# Altium integrated library TI Data Converters Digital to Analog Converter.IntLib: 1533 symbols (part 98 of 99)
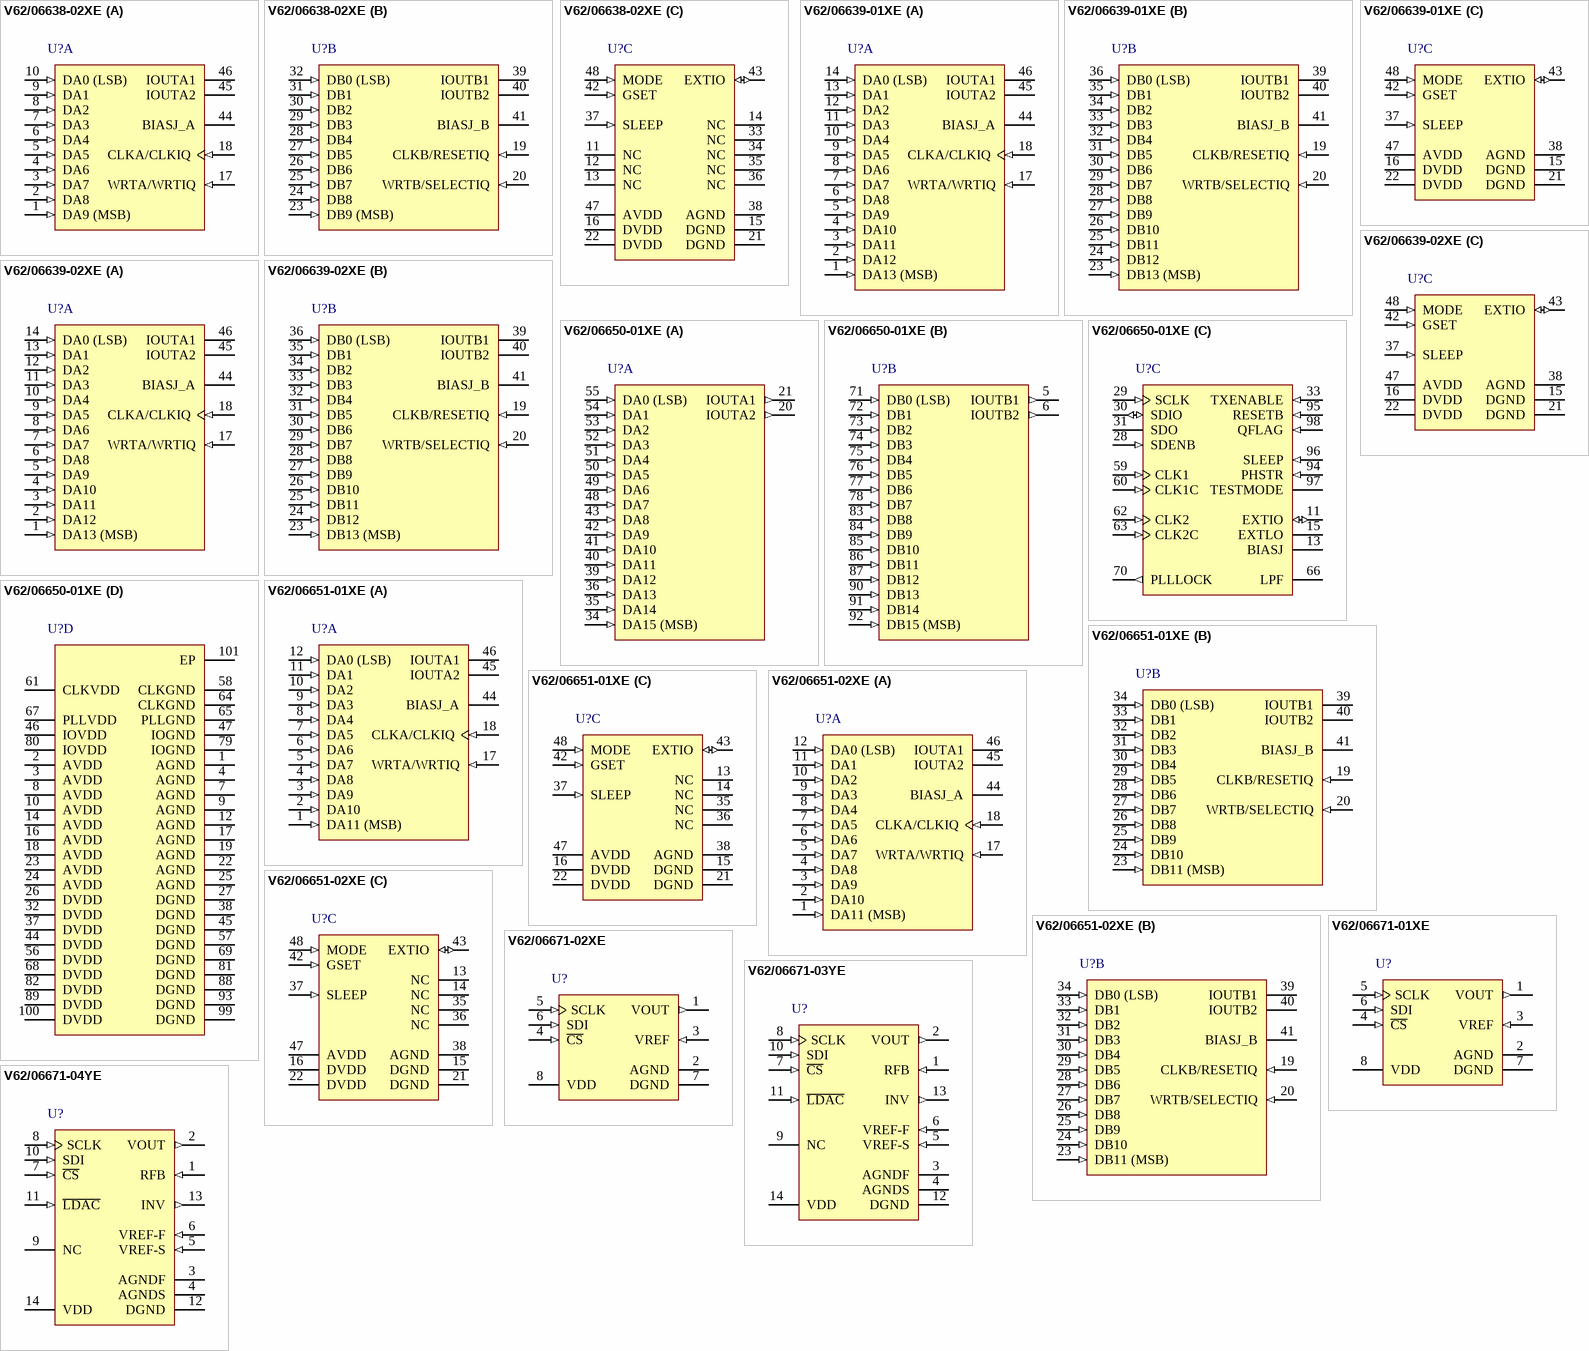
[diagram p170: symbols V62/06638-02XE to V62/06671-04YE]

## V62/06639-02XE
designator U?
Enhanced Product Dual 14-Bit 200-MSPS DAC, -55 to 125 degC, 48-pin QFP (PFB48), Green (RoHS & no Sb/Br); Manufacturer: Texas Instruments; PartNumber: V62/06639-02XE; DAC Channels: 2; DNL(Max)(+/-LSB): 3; INL(Max)(+/-LSB): 4; Interface: Parallel CMOS; Power Consumption(Typ)(mW): 330; Resolution(Bits): 14; Settling Time(us): 0.02; SFDR(dB): 84; SNR(dB): 77; SubFamily: High Speed DAC (>10MSPS); DatasheetVersion: SGLS339A; PackageVersion: 4073176/B, 10/1996; PackageReference: PFB48; PackageDescription: 48-Pin Plastic Flat Pack, Body 7 x 7 mm, Pitch 0.5 mm; Supplier 1: Mouser; Supplier Part Number 1: 595-V62/06639-02XE; Eco-Plan: Green (RoHS & no Sb/Br); Mounting Technology: Surface Mount; Code_JEDEC: MS-026; ComponentLink1Description: Manufacturer URL; ComponentLink1URL: http://www.ti.com/; ComponentLink2Description: Datasheet; ComponentLink2URL: http://www.ti.com/general/docs/lit/getliterature.tsp?genericPartNumber=DAC5672-EP&fileType=pdf; ComponentLink3Description: Package Specification; ComponentLink3URL: http://www.ti.com/lit/ml/mtqf019a/mtqf019a.pdf
footprint TI-PFB48_N (QFP, 48-Leads, Body 7x7mm, Pitch 0.5mm, IPC Medium Density)
footprint TI-PFB48_L (QFP, 48-Leads, Body 7x7mm, Pitch 0.5mm, IPC High Density)
footprint TI-PFB48_M (QFP, 48-Leads, Body 7x7mm, Pitch 0.5mm, IPC Low Density)
part A pins: 1 DA13 (MSB) (in) "Data port A. DA13 is MSB and DA0 is LSB. Internal pulldown.", 2 DA12 (in) "Data port A. DA13 is MSB and DA0 is LSB. Internal pulldown.", 3 DA11 (in) "Data port A. DA13 is MSB and DA0 is LSB. Internal pulldown.", 4 DA10 (in) "Data port A. DA13 is MSB and DA0 is LSB. Internal pulldown.", 5 DA9 (in) "Data port A. DA13 is MSB and DA0 is LSB. Internal pulldown.", 6 DA8 (in) "Data port A. DA13 is MSB and DA0 is LSB. Internal pulldown.", 7 DA7 (in) "Data port A. DA13 is MSB and DA0 is LSB. Internal pulldown.", 8 DA6 (in) "Data port A. DA13 is MSB and DA0 is LSB. Internal pulldown.", 9 DA5 (in) "Data port A. DA13 is MSB and DA0 is LSB. Internal pulldown.", 10 DA4 (in) "Data port A. DA13 is MSB and DA0 is LSB. Internal pulldown.", 11 DA3 (in) "Data port A. DA13 is MSB and DA0 is LSB. Internal pulldown.", 12 DA2 (in) "Data port A. DA13 is MSB and DA0 is LSB. Internal pulldown.", 13 DA1 (in) "Data port A. DA13 is MSB and DA0 is LSB. Internal pulldown.", 14 DA0 (LSB) (in) "Data port A. DA13 is MSB and DA0 is LSB. Internal pulldown.", 17 WRTA/WRTIQ (in) "Input write signal for PORT A (WRTIQ in interleaving mode)", 18 CLKA/CLKIQ (in) "Clock input for DACA, CLKIQ in interleaved mode", 44 BIASJ_A "Full-scale output current bias for DACA", 45 IOUTA2 (hiz) "DACA complementary current output. Full-scale with all bits of DA low.", 46 IOUTA1 (hiz) "DACA current output. Full-scale with all bits of DA high."
part B pins: 19 CLKB/RESETIQ (in) "Clock input for DACB, RESETIQ in interleaved mode", 20 WRTB/SELECTIQ (in) "Input write signal for PORT B (SELECTIQ in interleaving mode)", 23 DB13 (MSB) (in) "Data port B. DB13 is MSB and DB0 is LSB. Internal pulldown.", 24 DB12 (in) "Data port B. DB13 is MSB and DB0 is LSB. Internal pulldown.", 25 DB11 (in) "Data port B. DB13 is MSB and DB0 is LSB. Internal pulldown.", 26 DB10 (in) "Data port B. DB13 is MSB and DB0 is LSB. Internal pulldown.", 27 DB9 (in) "Data port B. DB13 is MSB and DB0 is LSB. Internal pulldown.", 28 DB8 (in) "Data port B. DB13 is MSB and DB0 is LSB. Internal pulldown.", 29 DB7 (in) "Data port B. DB13 is MSB and DB0 is LSB. Internal pulldown.", 30 DB6 (in) "Data port B. DB13 is MSB and DB0 is LSB. Internal pulldown.", 31 DB5 (in) "Data port B. DB13 is MSB and DB0 is LSB. Internal pulldown.", 32 DB4 (in) "Data port B. DB13 is MSB and DB0 is LSB. Internal pulldown.", 33 DB3 (in) "Data port B. DB13 is MSB and DB0 is LSB. Internal pulldown.", 34 DB2 (in) "Data port B. DB13 is MSB and DB0 is LSB. Internal pulldown.", 35 DB1 (in) "Data port B. DB13 is MSB and DB0 is LSB. Internal pulldown.", 36 DB0 (LSB) (in) "Data port B. DB13 is MSB and DB0 is LSB. Internal pulldown.", 39 IOUTB1 (hiz) "DACB current output. Full-scale with all bits of DB high.", 40 IOUTB2 (hiz) "DACB complementary current output. Full-scale with all bits of DB low.", 41 BIASJ_B "Full-scale output current bias for DACB"
part C pins: 15 DGND (power) "Digital ground", 16 DVDD (power) "Digital supply voltage", 21 DGND (power) "Digital ground", 22 DVDD (power) "Digital supply voltage", 37 SLEEP (in) "Sleep function control input: H - DAC in power-down mode, L - DAC in operating mode. Internal pulldown.", 38 AGND (power) "Analog ground", 42 GSET (in) "Gain-setting mode: H - 1 resistor, L - 2 resistors. Internal pullup.", 43 EXTIO (io) "Internal reference output (bypass with 0.1 uF to AGND) or external reference input", 47 AVDD (power) "Analog supply voltage", 48 MODE (in) "Mode Select: H - Dual Bus, L - Interleaved. Internal pullup."

## V62/06650-01XE
designator U?
Enhanced Product 16-Bit 500 MSPS 2 x - 8 x Interpolating Dual-Channel DAC, -55 to 125 degC, 100-pin QFP (PZP100), Green (RoHS & no Sb/Br); Manufacturer: Texas Instruments; PartNumber: V62/06650-01XE; DAC Channels: 2; Interface: Parallel CMOS; Power Consumption(Typ)(mW): 1410; Resolution(Bits): 16; Settling Time(us): 0.0104; SFDR(dB): 77; SNR(dB): 73; SubFamily: High Speed DAC (>10MSPS); DatasheetVersion: SGLS333; PackageVersion: 4146929/C, 09/2011; PackageReference: PZP100-5445X5445TP; PackageDescription: 100-Lead, Plastic Flat Pack, Body Size 14 x 14 mm, Pitch 0.5 mm; Supplier 1: Mouser; Supplier Part Number 1: 595-V62/06650-01XE; Eco-Plan: Green (RoHS & no Sb/Br); Mounting Technology: Surface Mount; Code_JEDEC: MS-026; ComponentLink1Description: Manufacturer URL; ComponentLink1URL: http://www.ti.com/; ComponentLink2Description: Datasheet; ComponentLink2URL: http://www.ti.com/general/docs/lit/getliterature.tsp?genericPartNumber=DAC5687-EP&fileType=pdf; ComponentLink3Description: Package Specification; ComponentLink3URL: http://www.ti.com/litv/pdf/mpqf053b
footprint TI-PZP100-5445X5445TP_N (QFP, 100-Leads, Body 14x14mm, Pitch 0.5mm, Thermal Pad 5.445x5.445mm, IPC Medium Density)
footprint TI-PZP100-5445X5445TP_L (QFP, 100-Leads, Body 14x14mm, Pitch 0.5mm, Thermal Pad 5.445x5.445mm, IPC High Density)
footprint TI-PZP100-5445X5445TP_M (QFP, 100-Leads, Body 14x14mm, Pitch 0.5mm, Thermal Pad 5.445x5.445mm, IPC Low Density)
part A pins: 20 IOUTA2 (out) "A-channel DAC complementary current output. Full scale when all input bits are set to 0", 21 IOUTA1 (out) "A-channel DAC current output. Full scale when all input bits are set to 1", 34 DA15 (MSB) (in) "A-channel data bits 0 through 15. DA15 is most significant data bit (MSB). DA0 is least significant data bit (LSB). Internal pulldown", 35 DA14 (in) "A-channel data bits 0 through 15. DA15 is most significant data bit (MSB). DA0 is least significant data bit (LSB). Internal pulldown", 36 DA13 (in) "A-channel data bits 0 through 15. DA15 is most significant data bit (MSB). DA0 is least significant data bit (LSB). Internal pulldown", 39 DA12 (in) "A-channel data bits 0 through 15. DA15 is most significant data bit (MSB). DA0 is least significant data bit (LSB). Internal pulldown", 40 DA11 (in) "A-channel data bits 0 through 15. DA15 is most significant data bit (MSB). DA0 is least significant data bit (LSB). Internal pulldown", 41 DA10 (in) "A-channel data bits 0 through 15. DA15 is most significant data bit (MSB). DA0 is least significant data bit (LSB). Internal pulldown", 42 DA9 (in) "A-channel data bits 0 through 15. DA15 is most significant data bit (MSB). DA0 is least significant data bit (LSB). Internal pulldown", 43 DA8 (in) "A-channel data bits 0 through 15. DA15 is most significant data bit (MSB). DA0 is least significant data bit (LSB). Internal pulldown", 48 DA7 (in) "A-channel data bits 0 through 15. DA15 is most significant data bit (MSB). DA0 is least significant data bit (LSB). Internal pulldown", 49 DA6 (in) "A-channel data bits 0 through 15. DA15 is most significant data bit (MSB). DA0 is least significant data bit (LSB). Internal pulldown", 50 DA5 (in) "A-channel data bits 0 through 15. DA15 is most significant data bit (MSB). DA0 is least significant data bit (LSB). Internal pulldown", 51 DA4 (in) "A-channel data bits 0 through 15. DA15 is most significant data bit (MSB). DA0 is least significant data bit (LSB). Internal pulldown", 52 DA3 (in) "A-channel data bits 0 through 15. DA15 is most significant data bit (MSB). DA0 is least significant data bit (LSB). Internal pulldown", 53 DA2 (in) "A-channel data bits 0 through 15. DA15 is most significant data bit (MSB). DA0 is least significant data bit (LSB). Internal pulldown", 54 DA1 (in) "A-channel data bits 0 through 15. DA15 is most significant data bit (MSB). DA0 is least significant data bit (LSB). Internal pulldown", 55 DA0 (LSB) (in) "A-channel data bits 0 through 15. DA15 is most significant data bit (MSB). DA0 is least significant data bit (LSB). Internal pulldown"
part B pins: 5 IOUTB1 (out) "B-channel DAC current output. Full scale when all input bits are set to 1", 6 IOUTB2 (out) "B-channel DAC complementary current output. Full scale when all input bits are set to 0", 71 DB0 (LSB) (in) "B-channel data bits 0 through 15. DB15 is most significant data bit (MSB). DB0 is least significant data bit (LSB). Internal pulldown Note: The order of the B data bus can be reversed by register rev_bbus.", 72 DB1 (in) "B-channel data bits 0 through 15. DB15 is most significant data bit (MSB). DB0 is least significant data bit (LSB). Internal pulldown Note: The order of the B data bus can be reversed by register rev_bbus.", 73 DB2 (in) "B-channel data bits 0 through 15. DB15 is most significant data bit (MSB). DB0 is least significant data bit (LSB). Internal pulldown Note: The order of the B data bus can be reversed by register rev_bbus.", 74 DB3 (in) "B-channel data bits 0 through 15. DB15 is most significant data bit (MSB). DB0 is least significant data bit (LSB). Internal pulldown Note: The order of the B data bus can be reversed by register rev_bbus.", 75 DB4 (in) "B-channel data bits 0 through 15. DB15 is most significant data bit (MSB). DB0 is least significant data bit (LSB). Internal pulldown Note: The order of the B data bus can be reversed by register rev_bbus.", 76 DB5 (in) "B-channel data bits 0 through 15. DB15 is most significant data bit (MSB). DB0 is least significant data bit (LSB). Internal pulldown Note: The order of the B data bus can be reversed by register rev_bbus.", 77 DB6 (in) "B-channel data bits 0 through 15. DB15 is most significant data bit (MSB). DB0 is least significant data bit (LSB). Internal pulldown Note: The order of the B data bus can be reversed by register rev_bbus.", 78 DB7 (in) "B-channel data bits 0 through 15. DB15 is most significant data bit (MSB). DB0 is least significant data bit (LSB). Internal pulldown Note: The order of the B data bus can be reversed by register rev_bbus.", 83 DB8 (in) "B-channel data bits 0 through 15. DB15 is most significant data bit (MSB). DB0 is least significant data bit (LSB). Internal pulldown Note: The order of the B data bus can be reversed by register rev_bbus.", 84 DB9 (in) "B-channel data bits 0 through 15. DB15 is most significant data bit (MSB). DB0 is least significant data bit (LSB). Internal pulldown Note: The order of the B data bus can be reversed by register rev_bbus.", 85 DB10 (in) "B-channel data bits 0 through 15. DB15 is most significant data bit (MSB). DB0 is least significant data bit (LSB). Internal pulldown Note: The order of the B data bus can be reversed by register rev_bbus.", 86 DB11 (in) "B-channel data bits 0 through 15. DB15 is most significant data bit (MSB). DB0 is least significant data bit (LSB). Internal pulldown Note: The order of the B data bus can be reversed by register rev_bbus.", 87 DB12 (in) "B-channel data bits 0 through 15. DB15 is most significant data bit (MSB). DB0 is least significant data bit (LSB). Internal pulldown Note: The order of the B data bus can be reversed by register rev_bbus.", 90 DB13 (in) "B-channel data bits 0 through 15. DB15 is most significant data bit (MSB). DB0 is least significant data bit (LSB). Internal pulldown Note: The order of the B data bus can be reversed by register rev_bbus.", 91 DB14 (in) "B-channel data bits 0 through 15. DB15 is most significant data bit (MSB). DB0 is least significant data bit (LSB). Internal pulldown Note: The order of the B data bus can be reversed by register rev_bbus.", 92 DB15 (MSB) (in) "B-channel data bits 0 through 15. DB15 is most significant data bit (MSB). DB0 is least significant data bit (LSB). Internal pulldown Note: The order of the B data bus can be reversed by register rev_bbus."
part C pins: 11 EXTIO (io) "Used as external reference input when internal reference is disabled (i.e., EXTLO connected to AVDD). Used as internal reference output when EXTLO = AGND, requires a 0.1-uF decoupling capacitor to AGND when used as reference (See Datasheet)", 13 BIASJ "Full-scale output current bias", 15 EXTLO "Internal reference ground. Connect to AVDD to disable the internal reference", 28 SDENB (in) "Active-low serial data enable, always an input to the DAC5686. Internal pulldown", 29 SCLK (in) "Serial interface clock. Internal pulldown", 30 SDIO (io) "Bidirectional serial-port data in the three-pin serial interface mode. Input-only serial data in the four-pin serial interface mode. Internal pulldown", 31 SDO (hiz) "High-impedance state (the pin is not used) in the three-pin serial interface mode. Serial-port output data in the four-pin serial interface mode.", 33 TXENABLE (in) "TxENABLE is used in interleaved mode. The rising edge of TxENABLE synchronizes the data of channels A and B. The first data after the rising edge of TxENABLE is treated as A data, while the next data is treated as B data and (See Datasheet)", 59 CLK1 (in) "External clock input; data clock input", 60 CLK1C (in) "Complementary external clock input; data clock input", 62 CLK2 (in) "External clock input; sample clock for the DAC (optional if PLL disabled)", 63 CLK2C (in) "Complementary external clock input; sample clock for the DAC (optional if PLL disabled)", 66 LPF "PLL loop filter connection. Can be left open or connected to GND if PLL is not used (PLLVDD = 0 V).", 70 PLLLOCK (out) "PLL lock status bit. In PLL clock mode, PLLLOCK is high when PLL is locked to the input clock. In external clock mode, PLLLOCK outputs the input rate clock.", 94 PHSTR (in) "The PHSTR pin has two functions. When the sync_phstr register is 0, a high on the PHSTR pin resets the NCO phase accumulator. When the sync_phstr register is 1, a PHSTR pin low-to-high transition sets the divided clock phase (See Datasheet)", 95 RESETB (in) "Resets the chip when low. Internal pullup", 96 SLEEP (in) "Asynchronous hardware power-down input. Active high. Internal pulldown", 97 TESTMODE "TESTMODE is DGND for the user", 98 QFLAG (in) "Used in the interleaved data input mode: When the qflag register bit is 1, the QFLAG pin is used as an input to identify the interleaved data sequence. QFLAG high identifies the data as channel B. Pin can be left open when (See Datasheet)"
part D pins: 1 AGND (power) "Analog ground return", 2 AVDD (power) "Analog supply voltage", 3 AVDD (power) "Analog supply voltage", 4 AGND (power) "Analog ground return", 7 AGND (power) "Analog ground return", 8 AVDD (power) "Analog supply voltage", 9 AGND (power) "Analog ground return", 10 AVDD (power) "Analog supply voltage", 12 AGND (power) "Analog ground return", 14 AVDD (power) "Analog supply voltage", 16 AVDD (power) "Analog supply voltage", 17 AGND (power) "Analog ground return", 18 AVDD (power) "Analog supply voltage", 19 AGND (power) "Analog ground return", 22 AGND (power) "Analog ground return", 23 AVDD (power) "Analog supply voltage", 24 AVDD (power) "Analog supply voltage", 25 AGND (power) "Analog ground return", 26 DVDD (power) "Digital supply voltage", 27 DGND (power) "Digital ground return", 32 DVDD (power) "Digital supply voltage", 37 DVDD (power) "Digital supply voltage", 38 DGND (power) "Digital ground return", 44 DVDD (power) "Digital supply voltage", 45 DGND (power) "Digital ground return", 46 IOVDD (power) "Digital I/O supply voltage", 47 IOGND (power) "Digital I/O ground return", 56 DVDD (power) "Digital supply voltage", 57 DGND (power) "Digital ground return", 58 CLKGND (power) "Ground return for internal clock buffer", 61 CLKVDD (power) "Internal clock buffer supply voltage", 64 CLKGND (power) "Ground return for internal clock buffer", 65 PLLGND (power) "Ground return for internal PLL", 67 PLLVDD (power) "PLL supply voltage. When PLLVDD is 0 V, the PLL is disabled.", 68 DVDD (power) "Digital supply voltage", 69 DGND (power) "Digital ground return", 79 IOGND (power) "Digital I/O ground return", 80 IOVDD (power) "Digital I/O supply voltage", 81 DGND (power) "Digital ground return", 82 DVDD (power) "Digital supply voltage", 88 DGND (power) "Digital ground return", 89 DVDD (power) "Digital supply voltage", 93 DGND (power) "Digital ground return", 99 DGND (power) "Digital ground return", 100 DVDD (power) "Digital supply voltage", 101 EP

## V62/06651-01XE
designator U?
Enhanced Product 12-Bit 200-MSPS Dual DAC, -55 to 125 degC, 48-pin QFP (PFB48), Green (RoHS & no Sb/Br); Manufacturer: Texas Instruments; PartNumber: V62/06651-01XE; DAC Channels: 2; Interface: Parallel CMOS; Power Consumption(Typ)(mW): 330; Resolution(Bits): 12; Settling Time(us): 0.02; SFDR(dB): 78; SNR(dB): 73; SubFamily: High Speed DAC (>10MSPS); DatasheetVersion: SGLS340A; PackageVersion: 4073176/B, 10/1996; PackageReference: PFB48; PackageDescription: 48-Pin Plastic Flat Pack, Body 7 x 7 mm, Pitch 0.5 mm; Supplier 1: Mouser; Supplier Part Number 1: 595-V62/06651-01XE; DNL(Max)(+/-LSB): 2; Eco-Plan: Green (RoHS & no Sb/Br); INL(Max)(+/-LSB): 2; Mounting Technology: Surface Mount; Code_JEDEC: MS-026; ComponentLink1Description: Manufacturer URL; ComponentLink1URL: http://www.ti.com/; ComponentLink2Description: Datasheet; ComponentLink2URL: http://www.ti.com/general/docs/lit/getliterature.tsp?genericPartNumber=DAC5662-EP&fileType=pdf; ComponentLink3Description: Package Specification; ComponentLink3URL: http://www.ti.com/lit/ml/mtqf019a/mtqf019a.pdf
footprint TI-PFB48_N (QFP, 48-Leads, Body 7x7mm, Pitch 0.5mm, IPC Medium Density)
footprint TI-PFB48_L (QFP, 48-Leads, Body 7x7mm, Pitch 0.5mm, IPC High Density)
footprint TI-PFB48_M (QFP, 48-Leads, Body 7x7mm, Pitch 0.5mm, IPC Low Density)
part A pins: 1 DA11 (MSB) (in) "Data port A. DA11 is MSB and DA0 is LSB. Internal pulldown.", 2 DA10 (in) "Data port A. DA11 is MSB and DA0 is LSB. Internal pulldown.", 3 DA9 (in) "Data port A. DA11 is MSB and DA0 is LSB. Internal pulldown.", 4 DA8 (in) "Data port A. DA11 is MSB and DA0 is LSB. Internal pulldown.", 5 DA7 (in) "Data port A. DA11 is MSB and DA0 is LSB. Internal pulldown.", 6 DA6 (in) "Data port A. DA11 is MSB and DA0 is LSB. Internal pulldown.", 7 DA5 (in) "Data port A. DA11 is MSB and DA0 is LSB. Internal pulldown.", 8 DA4 (in) "Data port A. DA11 is MSB and DA0 is LSB. Internal pulldown.", 9 DA3 (in) "Data port A. DA11 is MSB and DA0 is LSB. Internal pulldown.", 10 DA2 (in) "Data port A. DA11 is MSB and DA0 is LSB. Internal pulldown.", 11 DA1 (in) "Data port A. DA11 is MSB and DA0 is LSB. Internal pulldown.", 12 DA0 (LSB) (in) "Data port A. DA11 is MSB and DA0 is LSB. Internal pulldown.", 17 WRTA/WRTIQ (in) "Input write signal for PORT A (WRTIQ in interleaving mode)", 18 CLKA/CLKIQ (in) "Clock input for DACA, CLKIQ in interleaved mode", 44 BIASJ_A "Full-scale output current bias for DACA", 45 IOUTA2 (hiz) "DACA complementary current output. Full-scale with all bits of DA low.", 46 IOUTA1 (hiz) "DACA current output. Full-scale with all bits of DA high."
part B pins: 19 CLKB/RESETIQ (in) "Clock input for DACB, RESETIQ in interleaved mode", 20 WRTB/SELECTIQ (in) "Input write signal for PORT B (SELECTIQ in interleaving mode)", 23 DB11 (MSB) (in) "Data port B. DB11 is MSB and DB0 is LSB. Internal pulldown.", 24 DB10 (in) "Data port B. DB11 is MSB and DB0 is LSB. Internal pulldown.", 25 DB9 (in) "Data port B. DB11 is MSB and DB0 is LSB. Internal pulldown.", 26 DB8 (in) "Data port B. DB11 is MSB and DB0 is LSB. Internal pulldown.", 27 DB7 (in) "Data port B. DB11 is MSB and DB0 is LSB. Internal pulldown.", 28 DB6 (in) "Data port B. DB11 is MSB and DB0 is LSB. Internal pulldown.", 29 DB5 (in) "Data port B. DB11 is MSB and DB0 is LSB. Internal pulldown.", 30 DB4 (in) "Data port B. DB11 is MSB and DB0 is LSB. Internal pulldown.", 31 DB3 (in) "Data port B. DB11 is MSB and DB0 is LSB. Internal pulldown.", 32 DB2 (in) "Data port B. DB11 is MSB and DB0 is LSB. Internal pulldown.", 33 DB1 (in) "Data port B. DB11 is MSB and DB0 is LSB. Internal pulldown.", 34 DB0 (LSB) (in) "Data port B. DB11 is MSB and DB0 is LSB. Internal pulldown.", 39 IOUTB1 (hiz) "DACB current output. Full-scale with all bits of DB high.", 40 IOUTB2 (hiz) "DACB complementary current output. Full-scale with all bits of DB low.", 41 BIASJ_B "Full-scale output current bias for DACB"
part C pins: 13 NC "Factory use only. Pins must be connected to DGND or left unconnected.", 14 NC "Factory use only. Pins must be connected to DGND or left unconnected.", 15 DGND (power) "Digital ground", 16 DVDD (power) "Digital supply voltage", 21 DGND (power) "Digital ground", 22 DVDD (power) "Digital supply voltage", 35 NC "Factory use only. Pins must be connected to DGND or left unconnected.", 36 NC "Factory use only. Pins must be connected to DGND or left unconnected.", 37 SLEEP (in) "Sleep function control input: H - DAC in power-down mode, L - DAC in operating mode. Internal pulldown.", 38 AGND (power) "Analog ground", 42 GSET (in) "Gain-setting mode: H - 1 resistor, L - 2 resistors. Internal pullup.", 43 EXTIO (io) "Internal reference output (bypass with 0.1 uF to AGND) or external reference input", 47 AVDD (power) "Analog supply voltage", 48 MODE (in) "Mode Select: H - Dual Bus, L - Interleaved. Internal pullup."

## V62/06651-02XE
designator U?
Enhanced Product 12-Bit 200-MSPS Dual DAC, -55 to 125 degC, 48-pin QFP (PFB48), Green (RoHS & no Sb/Br); Manufacturer: Texas Instruments; PartNumber: V62/06651-02XE; DAC Channels: 2; Interface: Parallel CMOS; Power Consumption(Typ)(mW): 330; Resolution(Bits): 12; Settling Time(us): 0.02; SFDR(dB): 78; SNR(dB): 73; SubFamily: High Speed DAC (>10MSPS); DatasheetVersion: SGLS340A; PackageVersion: 4073176/B, 10/1996; PackageReference: PFB48; PackageDescription: 48-Pin Plastic Flat Pack, Body 7 x 7 mm, Pitch 0.5 mm; Supplier 1: Mouser; Supplier Part Number 1: 595-V62/06651-02XE; DNL(Max)(+/-LSB): 2; Eco-Plan: Green (RoHS & no Sb/Br); INL(Max)(+/-LSB): 2; Mounting Technology: Surface Mount; Code_JEDEC: MS-026; ComponentLink1Description: Manufacturer URL; ComponentLink1URL: http://www.ti.com/; ComponentLink2Description: Datasheet; ComponentLink2URL: http://www.ti.com/general/docs/lit/getliterature.tsp?genericPartNumber=DAC5662-EP&fileType=pdf; ComponentLink3Description: Package Specification; ComponentLink3URL: http://www.ti.com/lit/ml/mtqf019a/mtqf019a.pdf
footprint TI-PFB48_N (QFP, 48-Leads, Body 7x7mm, Pitch 0.5mm, IPC Medium Density)
footprint TI-PFB48_L (QFP, 48-Leads, Body 7x7mm, Pitch 0.5mm, IPC High Density)
footprint TI-PFB48_M (QFP, 48-Leads, Body 7x7mm, Pitch 0.5mm, IPC Low Density)
part A pins: 1 DA11 (MSB) (in) "Data port A. DA11 is MSB and DA0 is LSB. Internal pulldown.", 2 DA10 (in) "Data port A. DA11 is MSB and DA0 is LSB. Internal pulldown.", 3 DA9 (in) "Data port A. DA11 is MSB and DA0 is LSB. Internal pulldown.", 4 DA8 (in) "Data port A. DA11 is MSB and DA0 is LSB. Internal pulldown.", 5 DA7 (in) "Data port A. DA11 is MSB and DA0 is LSB. Internal pulldown.", 6 DA6 (in) "Data port A. DA11 is MSB and DA0 is LSB. Internal pulldown.", 7 DA5 (in) "Data port A. DA11 is MSB and DA0 is LSB. Internal pulldown.", 8 DA4 (in) "Data port A. DA11 is MSB and DA0 is LSB. Internal pulldown.", 9 DA3 (in) "Data port A. DA11 is MSB and DA0 is LSB. Internal pulldown.", 10 DA2 (in) "Data port A. DA11 is MSB and DA0 is LSB. Internal pulldown.", 11 DA1 (in) "Data port A. DA11 is MSB and DA0 is LSB. Internal pulldown.", 12 DA0 (LSB) (in) "Data port A. DA11 is MSB and DA0 is LSB. Internal pulldown.", 17 WRTA/WRTIQ (in) "Input write signal for PORT A (WRTIQ in interleaving mode)", 18 CLKA/CLKIQ (in) "Clock input for DACA, CLKIQ in interleaved mode", 44 BIASJ_A "Full-scale output current bias for DACA", 45 IOUTA2 (hiz) "DACA complementary current output. Full-scale with all bits of DA low.", 46 IOUTA1 (hiz) "DACA current output. Full-scale with all bits of DA high."
part B pins: 19 CLKB/RESETIQ (in) "Clock input for DACB, RESETIQ in interleaved mode", 20 WRTB/SELECTIQ (in) "Input write signal for PORT B (SELECTIQ in interleaving mode)", 23 DB11 (MSB) (in) "Data port B. DB11 is MSB and DB0 is LSB. Internal pulldown.", 24 DB10 (in) "Data port B. DB11 is MSB and DB0 is LSB. Internal pulldown.", 25 DB9 (in) "Data port B. DB11 is MSB and DB0 is LSB. Internal pulldown.", 26 DB8 (in) "Data port B. DB11 is MSB and DB0 is LSB. Internal pulldown.", 27 DB7 (in) "Data port B. DB11 is MSB and DB0 is LSB. Internal pulldown.", 28 DB6 (in) "Data port B. DB11 is MSB and DB0 is LSB. Internal pulldown.", 29 DB5 (in) "Data port B. DB11 is MSB and DB0 is LSB. Internal pulldown.", 30 DB4 (in) "Data port B. DB11 is MSB and DB0 is LSB. Internal pulldown.", 31 DB3 (in) "Data port B. DB11 is MSB and DB0 is LSB. Internal pulldown.", 32 DB2 (in) "Data port B. DB11 is MSB and DB0 is LSB. Internal pulldown.", 33 DB1 (in) "Data port B. DB11 is MSB and DB0 is LSB. Internal pulldown.", 34 DB0 (LSB) (in) "Data port B. DB11 is MSB and DB0 is LSB. Internal pulldown.", 39 IOUTB1 (hiz) "DACB current output. Full-scale with all bits of DB high.", 40 IOUTB2 (hiz) "DACB complementary current output. Full-scale with all bits of DB low.", 41 BIASJ_B "Full-scale output current bias for DACB"
part C pins: 13 NC "Factory use only. Pins must be connected to DGND or left unconnected.", 14 NC "Factory use only. Pins must be connected to DGND or left unconnected.", 15 DGND (power) "Digital ground", 16 DVDD (power) "Digital supply voltage", 21 DGND (power) "Digital ground", 22 DVDD (power) "Digital supply voltage", 35 NC "Factory use only. Pins must be connected to DGND or left unconnected.", 36 NC "Factory use only. Pins must be connected to DGND or left unconnected.", 37 SLEEP (in) "Sleep function control input: H - DAC in power-down mode, L - DAC in operating mode. Internal pulldown.", 38 AGND (power) "Analog ground", 42 GSET (in) "Gain-setting mode: H - 1 resistor, L - 2 resistors. Internal pullup.", 43 EXTIO (io) "Internal reference output (bypass with 0.1 uF to AGND) or external reference input", 47 AVDD (power) "Analog supply voltage", 48 MODE (in) "Mode Select: H - Dual Bus, L - Interleaved. Internal pullup."

## V62/06671-01XE
designator U?
Enhanced Product 16-Bit Ultra-Low Power Voltage-Output DAC, -55 to 125 degC, 8-pin SOIC (D8), Green (RoHS & no Sb/Br); Manufacturer: Texas Instruments; PartNumber: V62/06671-01XE; DAC Channels: 1; Interface: Serial SPI; Power Consumption(Typ)(mW): 0.015; Resolution(Bits): 16; SubFamily: Precision DAC (=<10MSPS); DatasheetVersion: SGLS334C; PackageVersion: 4040047-3/M, 06/2011; PackageReference: D8; PackageDescription: 8-Pin Plastic Small Outline, Body 4.9 x 3.9 mm, Pitch 1.27 mm; Supplier 1: Mouser; Supplier Part Number 1: 595-V62/06671-01XE; DNL(Max)(+/-LSB): 1; Eco-Plan: Green (RoHS & no Sb/Br); INL(Max)(+/-LSB): 1; Settling Time(us): 1; Mounting Technology: Surface Mount; Code_JEDEC: MS-012; ComponentLink1Description: Manufacturer URL; ComponentLink1URL: http://www.ti.com/; ComponentLink2Description: Datasheet; ComponentLink2URL: http://www.ti.com/general/docs/lit/getliterature.tsp?genericPartNumber=DAC8830-EP&fileType=pdf; ComponentLink3Description: Package Specification; ComponentLink3URL: http://www.ti.com/litv/pdf/msoi002j
footprint TI-D8_N (SOIC, 8-Leads, Body 4.9x3.9mm, Pitch 1.27mm, IPC Medium Density)
footprint TI-D8_L (SOIC, 8-Leads, Body 4.9x3.9mm, Pitch 1.27mm, IPC High Density)
footprint TI-D8_M (SOIC, 8-Leads, Body 4.9x3.9mm, Pitch 1.27mm, IPC Low Density)
pins: 1 VOUT (out) "Analog output of DAC", 2 AGND (power) "Analog ground", 3 VREF (in) "Voltage reference input", 4 ~{CS} (in) "Chip select input (active low). Data are not clocked into SDI unless C\S\ is low", 5 SCLK (in) "Serial clock input", 6 SDI (in) "Serial data input. Data are latched into input register on the rising edge of SCLK.", 7 DGND (power) "Digital ground", 8 VDD (power) "Analog power supply, +3 V to +5 V"

## V62/06671-02XE
designator U?
Enhanced Product 16-Bit Ultra-Low Power Voltage-Output DAC, -55 to 125 degC, 8-pin SOIC (D8), Green (RoHS & no Sb/Br); Manufacturer: Texas Instruments; PartNumber: V62/06671-02XE; DAC Channels: 1; Interface: Serial SPI; Power Consumption(Typ)(mW): 0.015; Resolution(Bits): 16; SubFamily: Precision DAC (=<10MSPS); DatasheetVersion: SGLS334C; PackageVersion: 4040047-3/M, 06/2011; PackageReference: D8; PackageDescription: 8-Pin Plastic Small Outline, Body 4.9 x 3.9 mm, Pitch 1.27 mm; Supplier 1: Mouser; Supplier Part Number 1: 595-V62/06671-02XE; DNL(Max)(+/-LSB): 1; Eco-Plan: Green (RoHS & no Sb/Br); INL(Max)(+/-LSB): 1; Settling Time(us): 1; Mounting Technology: Surface Mount; Code_JEDEC: MS-012; ComponentLink1Description: Manufacturer URL; ComponentLink1URL: http://www.ti.com/; ComponentLink2Description: Datasheet; ComponentLink2URL: http://www.ti.com/general/docs/lit/getliterature.tsp?genericPartNumber=DAC8830-EP&fileType=pdf; ComponentLink3Description: Package Specification; ComponentLink3URL: http://www.ti.com/litv/pdf/msoi002j
footprint TI-D8_N (SOIC, 8-Leads, Body 4.9x3.9mm, Pitch 1.27mm, IPC Medium Density)
footprint TI-D8_L (SOIC, 8-Leads, Body 4.9x3.9mm, Pitch 1.27mm, IPC High Density)
footprint TI-D8_M (SOIC, 8-Leads, Body 4.9x3.9mm, Pitch 1.27mm, IPC Low Density)
pins: 1 VOUT (out) "Analog output of DAC", 2 AGND (power) "Analog ground", 3 VREF (in) "Voltage reference input", 4 ~{CS} (in) "Chip select input (active low). Data are not clocked into SDI unless C\S\ is low", 5 SCLK (in) "Serial clock input", 6 SDI (in) "Serial data input. Data are latched into input register on the rising edge of SCLK.", 7 DGND (power) "Digital ground", 8 VDD (power) "Analog power supply, +3 V to +5 V"

## V62/06671-03YE
designator U?
Enhanced Product 16-Bit Ultra-Low Power Voltage-Output DAC, -55 to 125 degC, 14-pin SOIC (D14), Green (RoHS & no Sb/Br); Manufacturer: Texas Instruments; PartNumber: V62/06671-03YE; DAC Channels: 1; Interface: Serial SPI; Power Consumption(Typ)(mW): 0.015; Resolution(Bits): 16; SubFamily: Precision DAC (=<10MSPS); DatasheetVersion: SGLS334C; PackageVersion: 4040047-5/M, 06/2011; PackageReference: D14; PackageDescription: 14-Pin Plastic Small Outline, Body 8.65 x 3.9 mm, Pitch 1.27 mm; Supplier 1: Mouser; Supplier Part Number 1: 595-V62/06671-03YE; DNL(Max)(+/-LSB): 1; Eco-Plan: Green (RoHS & no Sb/Br); INL(Max)(+/-LSB): 1; Settling Time(us): 1; Mounting Technology: Surface Mount; Code_JEDEC: MS-012; ComponentLink1Description: Manufacturer URL; ComponentLink1URL: http://www.ti.com/; ComponentLink2Description: Datasheet; ComponentLink2URL: http://www.ti.com/general/docs/lit/getliterature.tsp?genericPartNumber=DAC8831-EP&fileType=pdf; ComponentLink3Description: Package Specification; ComponentLink3URL: http://www.ti.com/lit/ml/mpds177g/mpds177g.pdf
footprint TI-D14_N (SOIC, 14-Leads, Body 8.65x3.9mm, Pitch 1.27mm, IPC Medium Density)
footprint TI-D14_L (SOIC, 14-Leads, Body 8.65x3.9mm, Pitch 1.27mm, IPC High Density)
footprint TI-D14_M (SOIC, 14-Leads, Body 8.65x3.9mm, Pitch 1.27mm, IPC Low Density)
pins: 1 RFB (in) "Feedback resistor. Connect to the output of external operational amplifier in bipolar mode.", 2 VOUT (out) "Analog output of DAC", 3 AGNDF (power) "Analog ground (Force)", 4 AGNDS (power) "Analog ground (Sense)", 5 VREF-S (in) "Voltage reference input (Sense). Connect to external voltage reference", 6 VREF-F (in) "Voltage reference input (Force). Connect to external voltage reference", 7 ~{CS} (in) "Chip select input (active low). Data are not clocked into SDI unless C\S\ is low.", 8 SCLK (in) "Serial clock input.", 9 NC "No internal connection", 10 SDI (in) "Serial data input. Data are latched into input register on the rising edge of SCLK.", 11 ~{LDAC} (in) "Load DAC control input. Active low. When L\D\A\C\ is Low, the DAC latch is simultaneously updated with the content of the input register.", 12 DGND (power) "Digital ground", 13 INV (out) "Junction point of internal scaling resistors. Connect to external operational amplifier inverting input in bipolar mode.", 14 VDD (power) "Analog power supply, +3 V to +5 V."

## V62/06671-04YE
designator U?
Enhanced Product 16-Bit Ultra-Low Power Voltage-Output DAC, -55 to 125 degC, 14-pin SOIC (D14), Green (RoHS & no Sb/Br); Manufacturer: Texas Instruments; PartNumber: V62/06671-04YE; DAC Channels: 1; Interface: Serial SPI; Power Consumption(Typ)(mW): 0.015; Resolution(Bits): 16; SubFamily: Precision DAC (=<10MSPS); DatasheetVersion: SGLS334C; PackageVersion: 4040047-5/M, 06/2011; PackageReference: D14; PackageDescription: 14-Pin Plastic Small Outline, Body 8.65 x 3.9 mm, Pitch 1.27 mm; Supplier 1: Mouser; Supplier Part Number 1: 595-V62/06671-04YE; DNL(Max)(+/-LSB): 1; Eco-Plan: Green (RoHS & no Sb/Br); INL(Max)(+/-LSB): 1; Settling Time(us): 1; Mounting Technology: Surface Mount; Code_JEDEC: MS-012; ComponentLink1Description: Manufacturer URL; ComponentLink1URL: http://www.ti.com/; ComponentLink2Description: Datasheet; ComponentLink2URL: http://www.ti.com/general/docs/lit/getliterature.tsp?genericPartNumber=DAC8831-EP&fileType=pdf; ComponentLink3Description: Package Specification; ComponentLink3URL: http://www.ti.com/lit/ml/mpds177g/mpds177g.pdf
footprint TI-D14_N (SOIC, 14-Leads, Body 8.65x3.9mm, Pitch 1.27mm, IPC Medium Density)
footprint TI-D14_L (SOIC, 14-Leads, Body 8.65x3.9mm, Pitch 1.27mm, IPC High Density)
footprint TI-D14_M (SOIC, 14-Leads, Body 8.65x3.9mm, Pitch 1.27mm, IPC Low Density)
pins: 1 RFB (in) "Feedback resistor. Connect to the output of external operational amplifier in bipolar mode.", 2 VOUT (out) "Analog output of DAC", 3 AGNDF (power) "Analog ground (Force)", 4 AGNDS (power) "Analog ground (Sense)", 5 VREF-S (in) "Voltage reference input (Sense). Connect to external voltage reference", 6 VREF-F (in) "Voltage reference input (Force). Connect to external voltage reference", 7 ~{CS} (in) "Chip select input (active low). Data are not clocked into SDI unless C\S\ is low.", 8 SCLK (in) "Serial clock input.", 9 NC "No internal connection", 10 SDI (in) "Serial data input. Data are latched into input register on the rising edge of SCLK.", 11 ~{LDAC} (in) "Load DAC control input. Active low. When L\D\A\C\ is Low, the DAC latch is simultaneously updated with the content of the input register.", 12 DGND (power) "Digital ground", 13 INV (out) "Junction point of internal scaling resistors. Connect to external operational amplifier inverting input in bipolar mode.", 14 VDD (power) "Analog power supply, +3 V to +5 V."

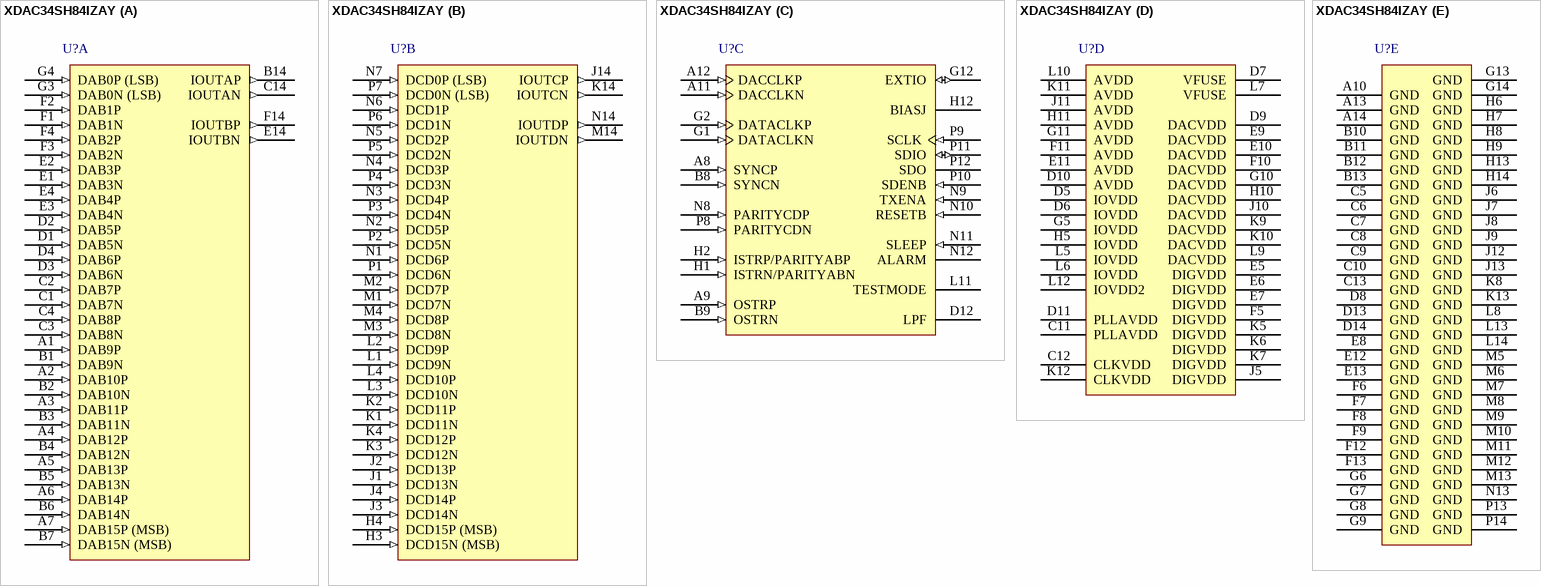
[diagram p73: symbol XDAC34SH84IZAY]